# EAGLE library part MICRO_MATE-N-LOK_16 (library con-tyco-micro-mate-n-lok-old)
1-794638-6
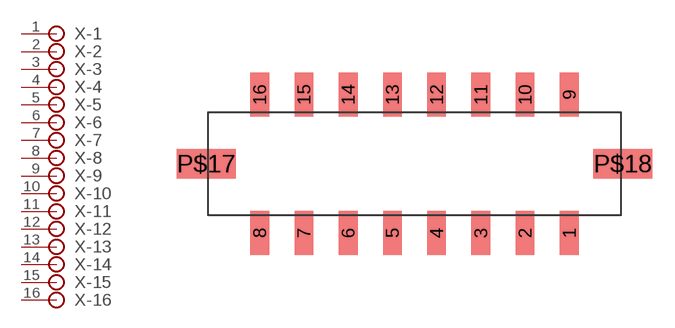
[diagram p6: symbol with the pads of MICRO_MATE-N-LOK_16_VERTICAL; footprint MICRO_MATE-N-LOK_16_VERTICAL]

Designator prefix X; gates -8=PIN -7=PIN -6=PIN -5=PIN -4=PIN -3=PIN -2=PIN -1=PIN -9=PIN -10=PIN -11=PIN -12=PIN -13=PIN -14=PIN -15=PIN -16=PIN

## MICRO_MATE-N-LOK_16  [MICRO_MATE-N-LOK_16_VERTICAL]
1  -1:P$1
2  -2:P$1
3  -3:P$1
4  -4:P$1
5  -5:P$1
6  -6:P$1
7  -7:P$1
8  -8:P$1
9  -9:P$1
10  -10:P$1
11  -11:P$1
12  -12:P$1
13  -13:P$1
14  -14:P$1
15  -15:P$1
16  -16:P$1

## Footprint MICRO_MATE-N-LOK_16_VERTICAL (pad centres in mm)
smd 1.27 x 3: 1 10.5,-4.7; 2 7.5,-4.7; 3 4.5,-4.7; 4 1.5,-4.7; 5 -1.5,-4.7; 6 -4.5,-4.7; 7 -7.5,-4.7; 8 -10.5,-4.7; 9 10.5,4.7; 10 7.5,4.7; 11 4.5,4.7; 12 1.5,4.7; 13 -1.5,4.7; 14 -4.5,4.7; 15 -7.5,4.7; 16 -10.5,4.7
smd 4 x 2: P$17 -14.135,0; P$18 14.135,0